# Altium footprint library TPS22959DNYT.PcbLib: 1 footprints
Each footprint in its own frame and in the unit in brackets; x right, y up, seen from the top. Pads: shape width x height; smd on the part's side, far side on the other; paste and mask are expansions set on the pad; w line width, h text height; cw(c..) or ccw(c..) is an arc to the next point about the centre after c.
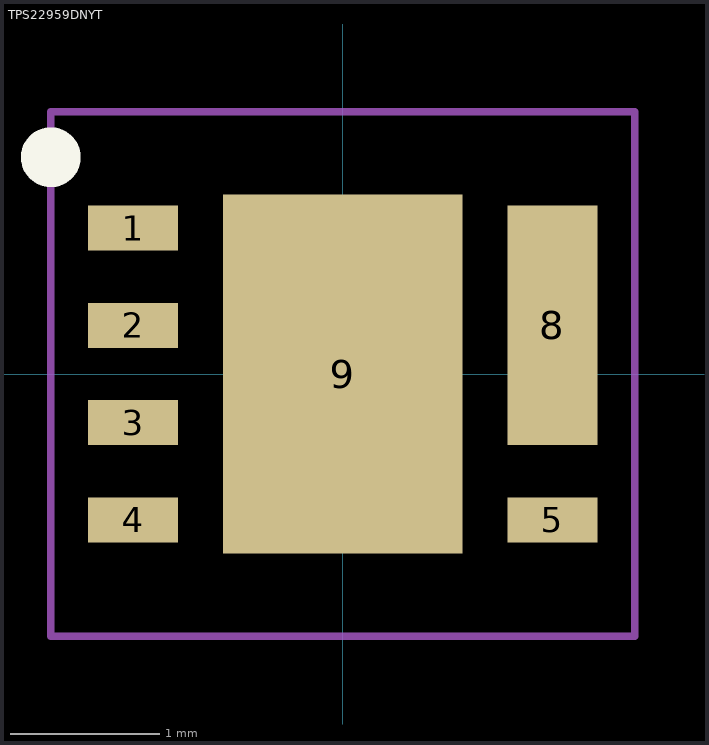
[diagram p0: the footprint, top view; thin cyan lines are the x and y axes]

## TPS22959DNYT [mm]
height 0.8
pads (7):
  rect 0.6x0.3 smd: 1(-1.4,0.975) 2(-1.4,0.325) 3(-1.4,-0.325) 4(-1.4,-0.975) 5(1.4,-0.975)
  rect 0.6x1.6 smd: 8(1.4,0.325)
  rect 1.6x2.4 smd: 9(0,0)
Top Overlay:
  circle w0.2: c-1.95,1.448 r0.1
Top Paste:
  region: -0.735,-0.1 0.735,-0.1 0.735,-1.161 -0.735,-1.161
  region: -0.736,1.16 0.735,1.16 0.735,0.1 -0.736,0.1
Top Solder:
  region: 1.031,1.195 1.77,1.195 1.77,-0.545 1.031,-0.545
  region: 1.031,-0.755 1.77,-0.755 1.77,-1.196 1.031,-1.196
  region: -1.77,-0.755 -1.03,-0.755 -1.03,-1.195 -1.77,-1.195
  region: -1.773,-0.105 -1.03,-0.105 -1.03,-0.546 -1.773,-0.546
  region: -1.773,0.545 -1.03,0.545 -1.03,0.105 -1.773,0.105
  region: -1.773,1.195 -1.03,1.195 -1.03,0.756 -1.773,0.756
Mechanical 15:
  lines w0.05: -1.95,-1.75 1.95,-1.75 1.95,1.75 -1.95,1.75 -1.95,-1.75
3D body: height 0.8, standoff 0, extent -1.5,-1.5 1.5,1.5